# EAGLE library part 52808-2071 (library 52808-2071)
Molex FFC/FPC SMT Series 1mm Pitch 20 Way 1 Row Straight SMT Female FPC Connector, Tin over Nickel Plated Contacts Source: Datasheet <https://www.molex.com/pdm_docs/sd/528082071_sd.pdf>
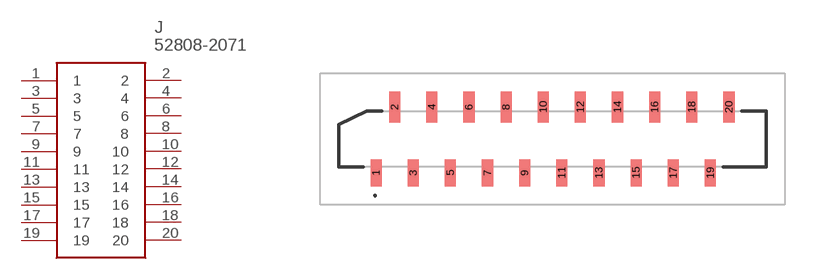
[diagram p0: symbol with the pads of 528082071; footprint 528082071]

Designator prefix J

## 52808-2071 (Description: Molex FFC/FPC SMT Series 1mm Pitch 20 Way 1 Row Straight SMT Female FPC Connector, Tin over Nickel Plated Contacts; Height: 5.3mm; Manufacturer_Name: Molex; Manufacturer_Part_Number: 52808-2071; Mouser_Part_Number: 538-52808-2071; Mouser_Price-Stock: https://www.mouser.co.uk/ProductDetail/Molex/52808-2071?qs=%252BdbFUiYBkDbHBMqIAYlO1A%3D%3D)  [528082071]
1  1
2  2
3  3
4  4
5  5
6  6
7  7
8  8
9  9
10  10
11  11
12  12
13  13
14  14
15  15
16  16
17  17
18  18
19  19
20  20

## Footprint 528082071 (pad centres in mm)
52808-2071-2
smd 0.6 x 1.45: 1 -9.5,-1.775; 3 -7.5,-1.775; 5 -5.5,-1.775; 7 -3.5,-1.775; 9 -1.5,-1.775; 11 0.5,-1.775; 13 2.5,-1.775; 15 4.5,-1.775; 17 6.5,-1.775; 19 8.5,-1.775
smd 0.6 x 1.65: 2 -8.5,1.775; 4 -6.5,1.775; 6 -4.5,1.775; 8 -2.5,1.775; 10 -0.5,1.775; 12 1.5,1.775; 14 3.5,1.775; 16 5.5,1.775; 18 7.5,1.775; 20 9.5,1.775